# Altium footprint library PCB - CONNECTOR - SAMTEC IPL1-103-02-L-D-K.PCBLIB: 1 footprints
Each footprint in its own frame and in the unit in brackets; x right, y up, seen from the top. Pads: shape width x height; smd on the part's side, far side on the other; paste and mask are expansions set on the pad; w line width, h text height; cw(c..) or ccw(c..) is an arc to the next point about the centre after c.
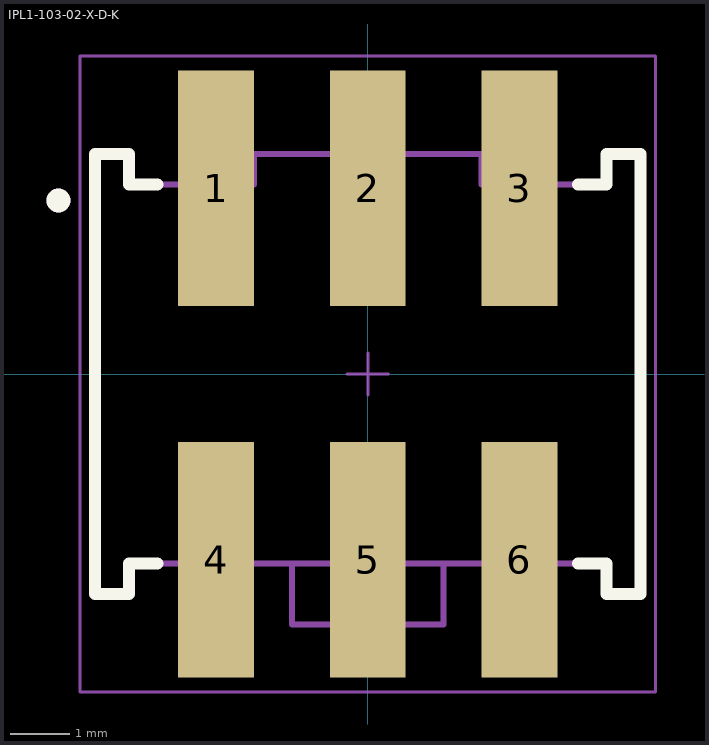
[diagram p0: the footprint, top view; thin cyan lines are the x and y axes]

## IPL1-103-02-X-D-K [mm]
height 8.76
pads (6):
  rect 1.27x3.94 smd: 1(-2.54,3.11) 2(0,3.11) 3(2.54,3.11) 4(-2.54,-3.11) 5(0,-3.11) 6(2.54,-3.11)
Top Overlay:
  circle w0.2: c-5.182,2.907 r0.1
  lines w0.2: -3.525,-3.175 -4,-3.175 -4,-3.685 -4.57,-3.685 -4.57,3.685 -4,3.685 -4,3.175 -3.525,3.175 ; 3.525,-3.175 4,-3.175 4,-3.685 4.57,-3.685 4.57,3.685 4,3.685 4,3.175 3.525,3.175
Top Assembly:
  circle w0.2: c-5.182,2.907 r0.1
  lines w0.1: -1.27,-3.175 1.27,-3.175 ; -1.27,-3.175 -1.27,-4.195 1.27,-4.195 1.27,-3.175 ; -1.27,-3.175 -4,-3.175 -4,-3.685 -4.57,-3.685 -4.57,3.685 -4,3.685 -4,3.175 -1.905,3.175 -1.905,3.685 1.905,3.685 1.905,3.175 4,3.175 4,3.685 4.57,3.685 4.57,-3.685 4,-3.685 4,-3.175 1.27,-3.175
Top Courtyard:
  lines w0.05: -4.82,-5.33 -4.82,5.33 4.82,5.33 4.82,-5.33 -4.82,-5.33
Top Designator:
  text ".Designator" at -1,-0.3 h0.76
Top Component Center:
  lines w0.05: -0.35,0 0.35,0 ; 0,-0.35 0,0.35
3D body "IPL1-103-02-L-D-K.stp": height 8.76, standoff 0, extent -4.572,-4.788 4.572,4.788